# EAGLE library part THS7316 (library Traficon)
3-Channel HDTV Video Amplifier With 5th-Order Filters and 6-dB Gain Created by CT on 16/02/2009. Checked by CT on 24/02/2009.
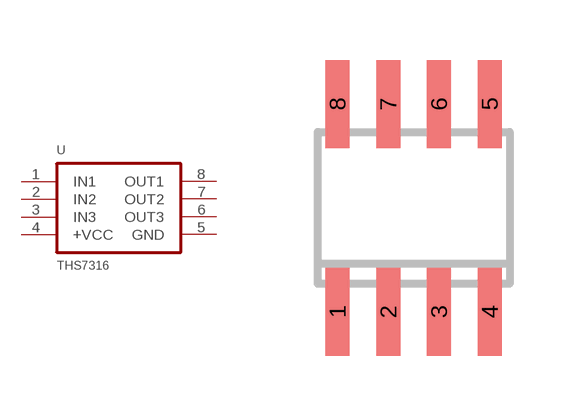
[diagram p231: symbol with the pads of SO08; footprint SO08]

Designator prefix U

## THS7316  [SO08]
1  IN1
2  IN2
3  IN3
4  +VCC
5  GND
6  OUT3
7  OUT2
8  OUT1

## Footprint SO08 (pad centres in mm)
SMALL OUTLINE INTEGRATED CIRCUIT body 3.9 mm/JEDEC MS-012AA
smd 0.6 x 2.2: 1 -1.905,-2.6; 2 -0.635,-2.6; 3 0.635,-2.6; 4 1.905,-2.6; 5 1.905,2.6; 6 0.635,2.6; 7 -0.635,2.6; 8 -1.905,2.6